# EAGLE library part 39-30-?06?_S (library con-molex-mini-fit)
HEADER
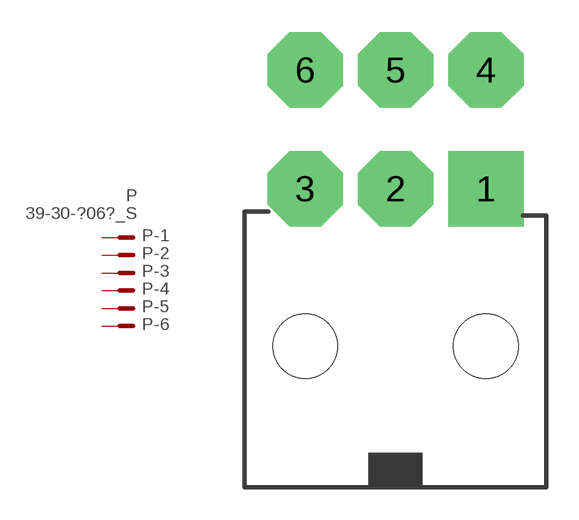
[diagram p10: symbol with the pads of 39-30-?06?; footprint 39-30-?06?]

Designator prefix P; gates -1=P-NV -2=P-N -3=P-N -4=P-N -5=P-N -6=P-N

## 39-30-06_S  [39-30-?06?]
1  -1:P  pas
2  -2:P  pas
3  -3:P  pas
4  -4:P  pas
5  -5:P  pas
6  -6:P  pas

## Footprint 39-30-?06? (pad centres in mm)
HEADER
drill 2 pad 3.5 square: 1 4.191,0
drill 2 pad 3.5 octagon: 2 0,0; 3 -4.191,0; 4 4.191,5.512; 5 0,5.512; 6 -4.191,5.512
hole 3 at -4.191,-7.3
hole 3 at 4.191,-7.3